# Altium schematic symbol library RFUART.SCHLIB: 11 symbols
Pins are listed as number, name and electrical type; pins without a type are passive.

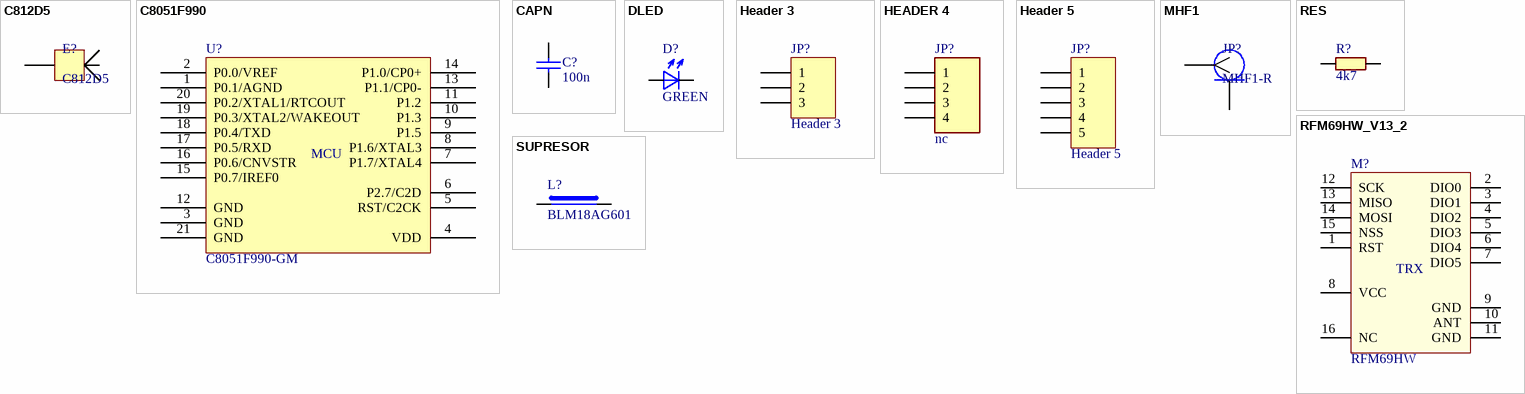
[diagram p0: symbols C812D5 to SUPRESOR]

## C812D5
designator E?
footprint C812D5
pins: 1 IN

## C8051F990
designator U?, comment C8051F990-GM
footprint QFN20 - duplicate (C8051F990 etc.)
footprint QFN20 - duplicate (C8051F990 etc.)
footprint QFN50P300X300X60_HS-21N (QFN, 20-Leads, Body 3,00x3,00mm, Pitch 0,50mm, Thermal Pad 1,70x1,70mm, IPC Medium Density)
pins: 1 P0.1/AGND, 2 P0.0/VREF, 3 GND, 4 VDD, 5 RST/C2CK, 6 P2.7/C2D, 7 P1.7/XTAL4, 8 P1.6/XTAL3, 9 P1.5, 10 P1.3, 11 P1.2, 12 GND, 13 P1.1/CP0-, 14 P1.0/CP0+, 15 P0.7/IREF0, 16 P0.6/CNVSTR, 17 P0.5/RXD, 18 P0.4/TXD, 19 P0.3/XTAL2/WAKEOUT, 20 P0.2/XTAL1/RTCOUT, 21 GND
text: MCU

## CAPN
designator C?, comment 100n
footprint C-0603
footprint C-0805
footprint C-1206
footprint CAPC1608X08N (Chip Capacitor, 2-Leads, Body 1,60x0,80mm, IPC Medium Density)
pins: 1, 2

## DLED
designator D?, comment GREEN
footprint LED-0805
footprint LEDC200X125X80L40N (LED, Chip; 2.00 mm L X 1.25 mm W X 0.80 mm H body)
pins: A 1, K 2

## Header 3
designator JP?
Header, 3-Pin; LatestRevisionDate: 17-Jul-2002; LatestRevisionNote: Re-released for DXP Platform.; Publisher: Altium Limited
footprint HDR1X3 (Connector; Header; 3 Position)
signal-integrity model Connector
footprint HDRV3W70P254_3X1_635X254H754 (Header, Vertical, 2.54 mm pitch; 0.70 mm lead width, 3 pins, 1 row, 3 pins per row, 6.35 mm L X 2.54 mm W X 7.54 mm H body)
pins: 1, 2, 3

## HEADER 4
designator JP?, comment nc
4 Pin Header 2,0 mm, 1x04; Part Field 1: CviLux
footprint IDS1-4P
footprint HDRV4W70P254_4X1_889X254H754 (Header, Vertical, 2.54 mm pitch; 0.70 mm lead width, 4 pins, 1 row, 4 pins per row, 8.89 mm L X 2.54 mm W X 7.54 mm H body)
pins: 1, 2, 3, 4

## Header 5
designator JP?
Header, 5-Pin; LatestRevisionDate: 17-Jul-2002; LatestRevisionNote: Re-released for DXP Platform.; Publisher: Altium Limited
footprint HDR1X5 (Connector; Header; 5 Position)
signal-integrity model Connector
footprint HDRV5W70P254_5X1_1143X254H754 (Header, Vertical, 2.54 mm pitch; 0.70 mm lead width, 5 pins, 1 row, 5 pins per row, 11.43 mm L X 2.54 mm W X 7.54 mm H body)
pins: 1, 2, 3, 4, 5

## MHF1
designator JP?, comment MHF1-R
footprint MHF1_R
pins: 1, 2

## RES
designator R?, comment 4k7
footprint R-0603
footprint R-0805
footprint R-1206
footprint RESC1005X05N (Chip Resistor, 2-Leads, Body 1,05x0,54mm, IPC Medium Density)
footprint RESC1608X06N (Chip Resistor, 2-Leads, Body 1,60x0,82mm, IPC Medium Density)
footprint RESC2012X07N (Chip Resistor, 2-Leads, Body 2,00x1,25mm, IPC Medium Density)
footprint RESC3216X07N (Chip Resistor, 2-Leads, Body 3,20x1,60mm, IPC Medium Density)
footprint RESC3225X07N (Chip Resistor, 2-Leads, Body 3,20x2,49mm, IPC Medium Density)
footprint RESC1608X06N (Chip Resistor, 2-Leads, Body 1,60x0,82mm, IPC Medium Density)
pins: 1, 2

## RFM69HW_V13_2
designator M?, comment RFM69HW
footprint LGA16_RFM69 (LGA, 16-Leads, RFM69HW)
pins: 1 RST, 2 DIO0, 3 DIO1, 4 DIO2, 5 DIO3, 6 DIO4, 7 DIO5, 8 VCC, 9 GND, 10 ANT, 11 GND, 12 SCK, 13 MISO, 14 MOSI, 15 NSS, 16 NC
text: TRX

## SUPRESOR
designator L?, comment BLM18AG601
Примечание: *; Производитель: *
footprint L-1210
footprint LEADED
footprint CAPC1005X06N (Chip Capacitor, 2-Leads, Body 1,00x0,50mm, IPC Medium Density)
footprint CAPC1608X08N (Chip Capacitor, 2-Leads, Body 1,60x0,80mm, IPC Medium Density)
footprint CAPC2012X11N (Chip Capacitor, 2-Leads, Body 2,00x1,25mm, IPC Medium Density)
footprint CAPC3216X14N (Chip Capacitor, 2-Leads, Body 3,20x1,60mm, IPC Medium Density)
footprint CAPC3225X14N (Chip Capacitor, 2-Leads, Body 3,20x2,50mm, IPC Medium Density)
footprint CAPC4532X14N (Chip Capacitor, 2-Leads, Body 4,50x3,20mm, IPC Medium Density)
footprint INDC1608X10N (Chip Inductor, 2-Leads, Body 1,60x0,80mm, IPC Medium Density)
pins: 1, 2